# Altium footprint library PcbLib1.PcbLib: 16 footprints
Each footprint in its own frame and in the unit in brackets; x right, y up, seen from the top. Pads: shape width x height; smd on the part's side, far side on the other; paste and mask are expansions set on the pad; w line width, h text height; cw(c..) or ccw(c..) is an arc to the next point about the centre after c.
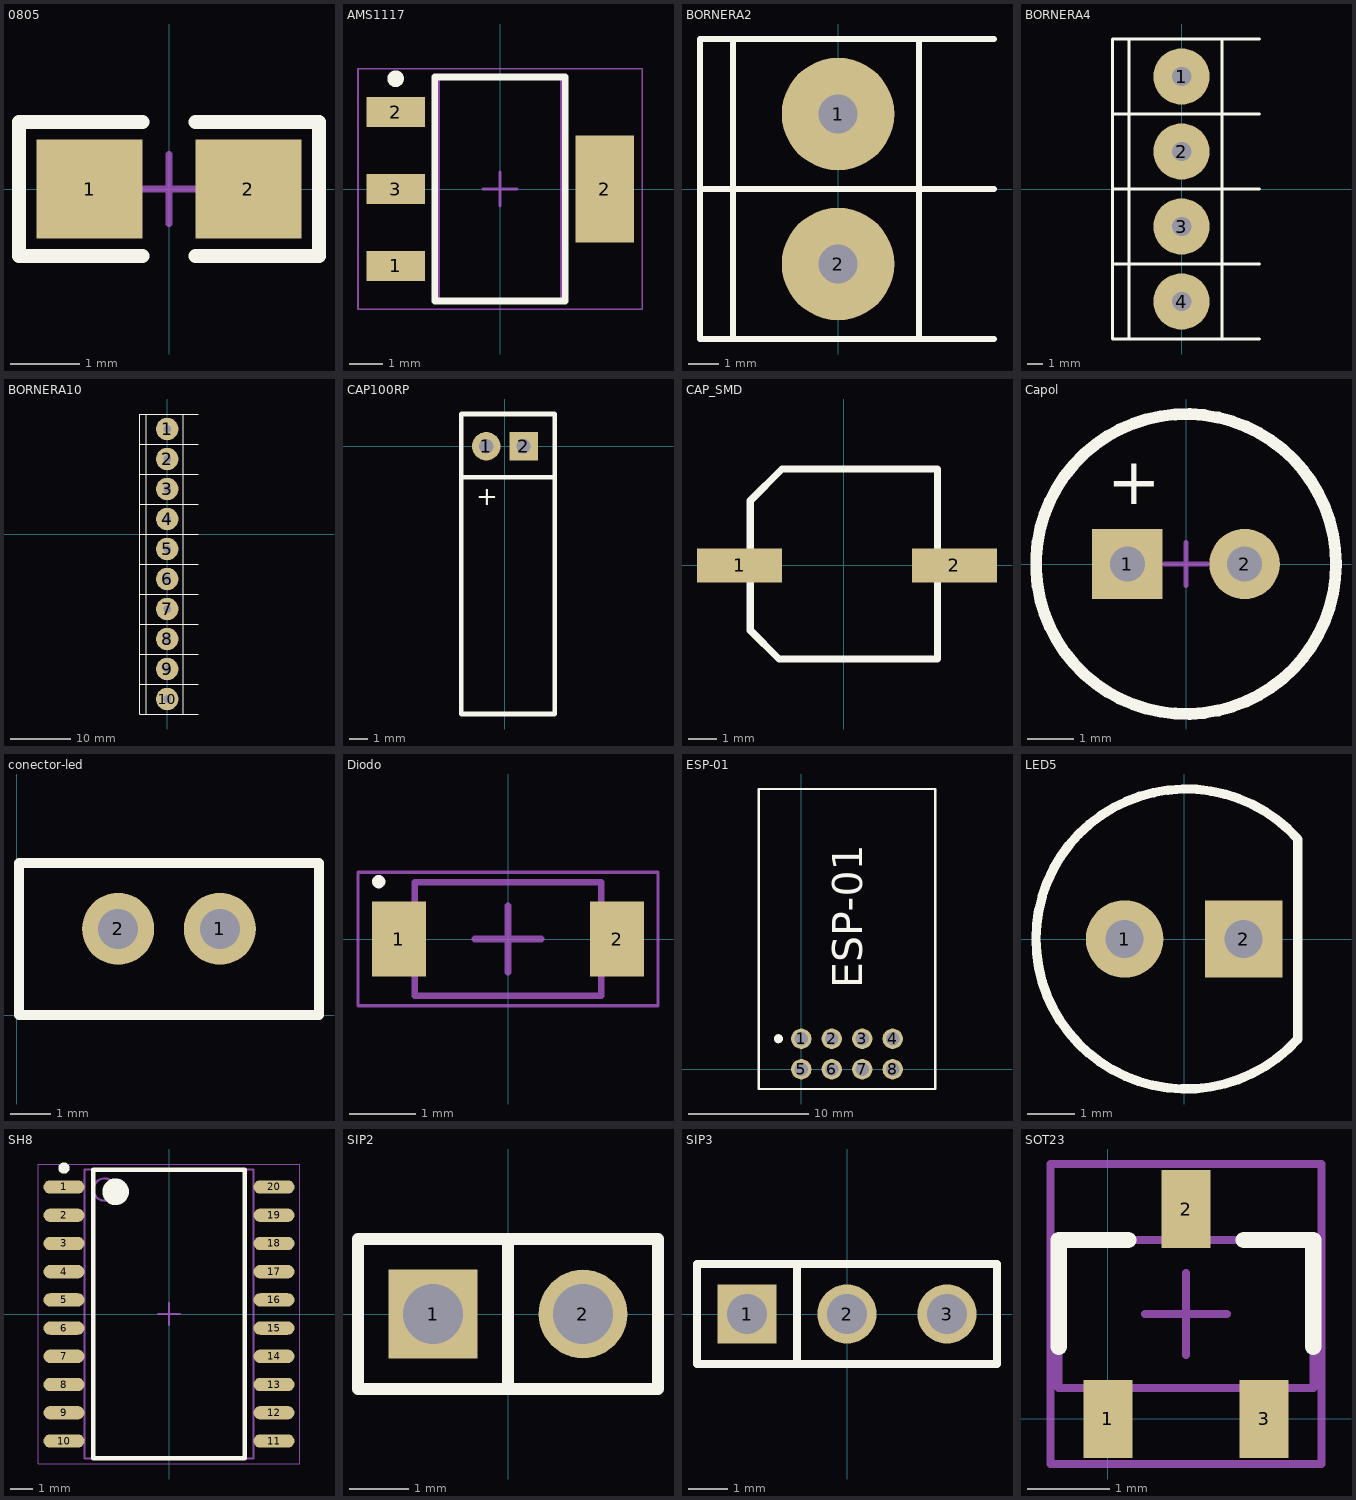
[diagram p0: the footprints below, top view; thin cyan lines are the x and y axes]

## 0805 [mil] "Pasivo 0805"
height 27.56
pads (2):
  rect 60x56 smd: 1(-45,0) 2(45,0)
Top Overlay:
  lines w7.87: -85,-38 -85,38 -15,38 ; -84,-38 -15,-38 ; 15,-38 85,-38 85,38 15,38
Mechanical 15:
  lines w3.94: -19.69,0 19.68,0 ; 0,-19.68 0,19.68
3D body: height 15.35, standoff -0.79, extent -39.5,-24.5 39.24,24.71

## AMS1117 [mm] "SOT223, 4-Leads, Body 6,50x7,00mm (avg), Pitch 2,30mm, IPC Medium Density"
height 1.8
pads (4):
  rect 1.75x0.9 smd: 1(-3.125,-2.3) 2(-3.125,2.3) 3(-3.125,0)
  rect 1.75x3.2 smd: 2(3.125,0)
Top Overlay:
  circle w0.25: c-3.125,3.3 r0.125
  lines w0.2: -1.95,-3.35 1.95,-3.35 1.95,3.35 -1.95,3.35 -1.95,-3.35
Mechanical 13:
  lines w0.1: -1.85,-3.35 1.85,-3.35 1.85,3.35 -1.85,3.35 -1.85,-3.35
Mechanical 15:
  lines w0.05: -4.25,-3.6 4.25,-3.6 4.25,3.6 -4.25,3.6 -4.25,-3.6
  lines w0.1: -0.5,0 0.5,0 ; 0,-0.5 0,0.5
3D body: height 1.7, standoff 0.02, extent -3.48,-3.25 3.48,3.25

## BORNERA2 [mm] "Bornera con Tornillos 5mm separaci�n"
pads (2):
  round 3.75 hole 1.3: 1(0,2.5) 2(0,-2.5)
Top Overlay:
  lines w0.2: -4.6,0 5.2,0 ; -3.5,-5 -3.5,5 ; 2.7,-5 2.7,5 ; 5.2,-5 -4.6,-5 -4.6,5 5.2,5
3D body: height 10, standoff -2.28, extent -3.763,-4.892 3.937,5.607

## BORNERA4 [mm] "Bornera con Tornillos 5mm separaci�n"
pads (4):
  round 3.75 hole 1.3: 1(0,7.5) 2(0,2.5) 3(0,-2.5) 4(0,-7.5)
Top Overlay:
  lines w0.2: -4.6,-5 5.2,-5 ; -4.6,0 5.2,0 ; -4.6,5 5.2,5 ; -3.5,-10 -3.5,10 ; 2.7,-10 2.7,10 ; 5.2,-10 -4.6,-10 -4.6,10 5.2,10
3D body: height 10, standoff -2.28, extent -3.763,0.108 3.937,10.607
3D body: height 10, standoff -2.28, extent -3.763,-9.892 3.937,0.607

## BORNERA10 [mm] "Bornera con Tornillos 5mm separaci�n"
pads (10):
  round 3.75 hole 1.3: 1(0,17.5) 2(0,12.5) 3(0,7.5) 4(0,2.5) 5(0,-2.5) 6(0,-7.5) 7(0,-12.5) 8(0,-17.5) 9(0,-22.5) 10(0,-27.5)
Top Overlay:
  lines w0.2: -4.6,-25 5.2,-25 ; -4.6,-20 5.2,-20 ; -4.6,-15 5.2,-15 ; -4.6,-10 5.2,-10 ; -4.6,-5 5.2,-5 ; -4.6,0 5.2,0 ; -4.6,5 5.2,5 ; -4.6,10 5.2,10 ; -4.6,15 5.2,15 ; -3.5,-30 -3.5,20 ; 2.7,-30 2.7,20 ; 5.2,-30 -4.6,-30 -4.6,20 5.2,20
3D body: height 10, standoff -2.28, extent -3.763,-29.893 3.937,-19.393
3D body: height 10, standoff -2.28, extent -3.763,-19.893 3.937,-9.393
3D body: height 10, standoff -2.28, extent -3.763,-9.892 3.937,0.607
3D body: height 10, standoff -2.28, extent -3.763,10.108 3.937,20.608
3D body: height 10, standoff -2.28, extent -3.763,0.108 3.937,10.607

## CAP100RP [mil] "Body diameter 5mm"
pads (2):
  round 60 hole 30: 1(-39.37,0)
  rect 60x60 hole 30: 2(39.37,0)
Top Overlay:
  lines w10: -91,-65.26 99,-65.26 ; -92,-565 -92,-20 -92,68 105,68 105,-565 -92,-565
  text "+" at -60,-125 h40
3D body: height 219.57, standoff 17.06, extent -97.47,-566 107.47,-65

## CAP_SMD [mm]
pads (2):
  rect 3x1.2 smd: 1(-3.683,0) 2(3.899,0)
Top Overlay:
  lines w0.254: -3.302,-2.286 -2.286,-3.302 3.302,-3.302 3.302,3.404 -2.184,3.404 -3.302,2.286 -3.302,-2.286
3D body: height 8.05, standoff 0, extent -3.899,-3.403 3.899,3.404

## Capol [mil] "Body diameter 6.5mm"
pads (2):
  rect 60x60 hole 30: 1(-50,0)
  round 60 hole 30: 2(50,0)
Top Overlay:
  circle w10: c0,0 r127.95
  text "+" at -67,51 h40
Mechanical 15:
  lines w3.94: -18.7,0 18.7,0 ; 0,-18.7 0,18.7
3D body: height 453.76, standoff -118.67, extent -124,-125.02 126.03,125.02

## conector-led [mm]
pads (2):
  round 1.8 hole 1: 1(5.08,2.159) 2(2.54,2.159)
Top Overlay:
  lines w0.254: 0.06,0.005 0.06,3.805 7.56,3.805 7.56,0.005 0.06,0.005
3D body: height 6, standoff -3.21, extent 0.06,0.005 7.56,3.805

## Diodo [mm] "SODFL, 2-Leads, Body 1,60x3,60mm, IPC Medium Density"
height 1.3
pads (2):
  rect 0.81x1.12 smd: 1(-1.635,0) 2(1.635,0)
Top Overlay:
  circle w0.1: c-1.94,0.86 r0.05
Mechanical 13:
  lines w0.1: -1.4,-0.85 -1.4,0.85 1.4,0.85 1.4,-0.85 -1.4,-0.85
Mechanical 15:
  lines w0.05: -2.25,-1 -2.25,1 2.25,1 2.25,-1 -2.25,-1
  lines w0.1: -0.5,0 0.5,0 ; 0,-0.5 0,0.5
3D body: height 1.3, standoff 0, extent -1.4,-0.85 1.4,0.85

## ESP-01 [mm]
pads (8):
  round 1.7 hole 1.1: 1(0,2.54) 2(2.54,2.54) 3(5.08,2.54) 4(7.62,2.54) 5(0,0) 6(2.54,0) 7(5.08,0) 8(7.62,0)
Top Overlay:
  circle w0.254: c-1.905,2.54 r0.254
  circle w0.254: c-1.905,2.54 r0.125
  lines w0.2: -3.556,-1.651 -3.556,23.368 11.176,23.368 11.176,-1.651 -3.556,-1.651
  text "ESP-01" at 5.08,6.731 h2.5
3D body: height 5.88, standoff -5.8, extent -3.429,-1.524 11.071,23.276

## LED5 [mil]
pads (2):
  round 65 hole 32: 1(-50,0)
  rect 65x65 hole 32: 2(50,0)
Top Overlay:
  lines w7.87: 95.26,-84.23 cw(c1.57,0) 95.56,83.89 95.56,-84.23
3D body: height 484.75, standoff -97.93, extent -116.69,-116.99 96.69,120

## SH8 [mm] "SOP, 20-Leads, Body 12,80x7,50mm, Pitch 1,27mm, IPC Medium Density"
height 2.65
pads (20):
  oval 1.85x0.6 smd: 1(-4.725,5.715) 2(-4.725,4.445) 3(-4.725,3.175) 4(-4.725,1.905) 5(-4.725,0.635) 6(-4.725,-0.635) 7(-4.725,-1.905) 8(-4.725,-3.175) 9(-4.725,-4.445) 10(-4.725,-5.715) 11(4.725,-5.715) 12(4.725,-4.445) 13(4.725,-3.175) 14(4.725,-1.905) 15(4.725,-0.635) 16(4.725,0.635) 17(4.725,1.905) 18(4.725,3.175) 19(4.725,4.445) 20(4.725,5.715)
Top Overlay:
  circle w0.6: c-2.4,5.5 r0.3
  circle w0.25: c-4.725,6.565 r0.125
  lines w0.2: -3.4,-6.5 3.4,-6.5 3.4,6.5 -3.4,6.5 -3.4,-6.5
Mechanical 13:
  circle w0.1: c-2.9,5.6 r0.5
  lines w0.1: -3.8,-6.5 3.8,-6.5 3.8,6.5 -3.8,6.5 -3.8,-6.5
Mechanical 15:
  lines w0.05: -5.875,-6.75 5.875,-6.75 5.875,6.75 -5.875,6.75 -5.875,-6.75
  lines w0.1: -0.5,0 0.5,0 ; 0,-0.5 0,0.5
3D body: height 2.65, standoff 0.1, extent -3.8,-6.5 3.8,6.5

## SIP2 [mm]
pads (2):
  rect 1.5x1.5 hole 1.016: 1(-1.27,0)
  round 1.5 hole 1.016: 2(1.27,0)
Top Overlay:
  lines w0.2: 0,-1.27 0,1.27 ; -2.54,-1.27 -2.54,1.27 2.54,1.27 2.54,-1.27 -2.54,-1.27

## SIP3 [mm]
pads (3):
  rect 1.5x1.5 hole 1.016: 1(-2.54,0)
  round 1.5 hole 1.016: 2(0,0) 3(2.54,0)
Top Overlay:
  lines w0.2: -1.27,-1.27 -1.27,1.27 ; -3.81,-1.27 -3.81,1.27 3.81,1.27 3.81,-1.27 -3.81,-1.27
3D body: height 8.38, standoff -2.54, extent -3.81,-1.295 3.81,1.245

## SOT23 [mm]
pads (3):
  rect 0.6x0.95 smd: 1(0,0) 2(0.95,2.55) 3(1.9,0)
Top Overlay:
  lines w0.2: -0.6,0.875 -0.6,2.175 0.25,2.175 ; 1.65,2.175 2.5,2.175 2.5,0.875
Mechanical 13:
  lines w0.1: -0.6,0.375 -0.6,2.175 2.5,2.175 2.5,0.375 -0.6,0.375
Mechanical 15:
  lines w0.1: 0.45,1.275 1.45,1.275 ; 0.95,0.775 0.95,1.775 ; -0.7,-0.55 -0.7,3.1 2.6,3.1 2.6,-0.55 -0.7,-0.55
3D body: height 1, standoff -0.1, extent -0.533,-0.254 2.467,2.884